# Altium footprint library 常用元件封装.PCBLIB: 163 footprints (part 7 of 11)
Each footprint in its own frame and in the unit in brackets; x right, y up, seen from the top. Pads: shape width x height; smd on the part's side, far side on the other; paste and mask are expansions set on the pad; w line width, h text height; cw(c..) or ccw(c..) is an arc to the next point about the centre after c.
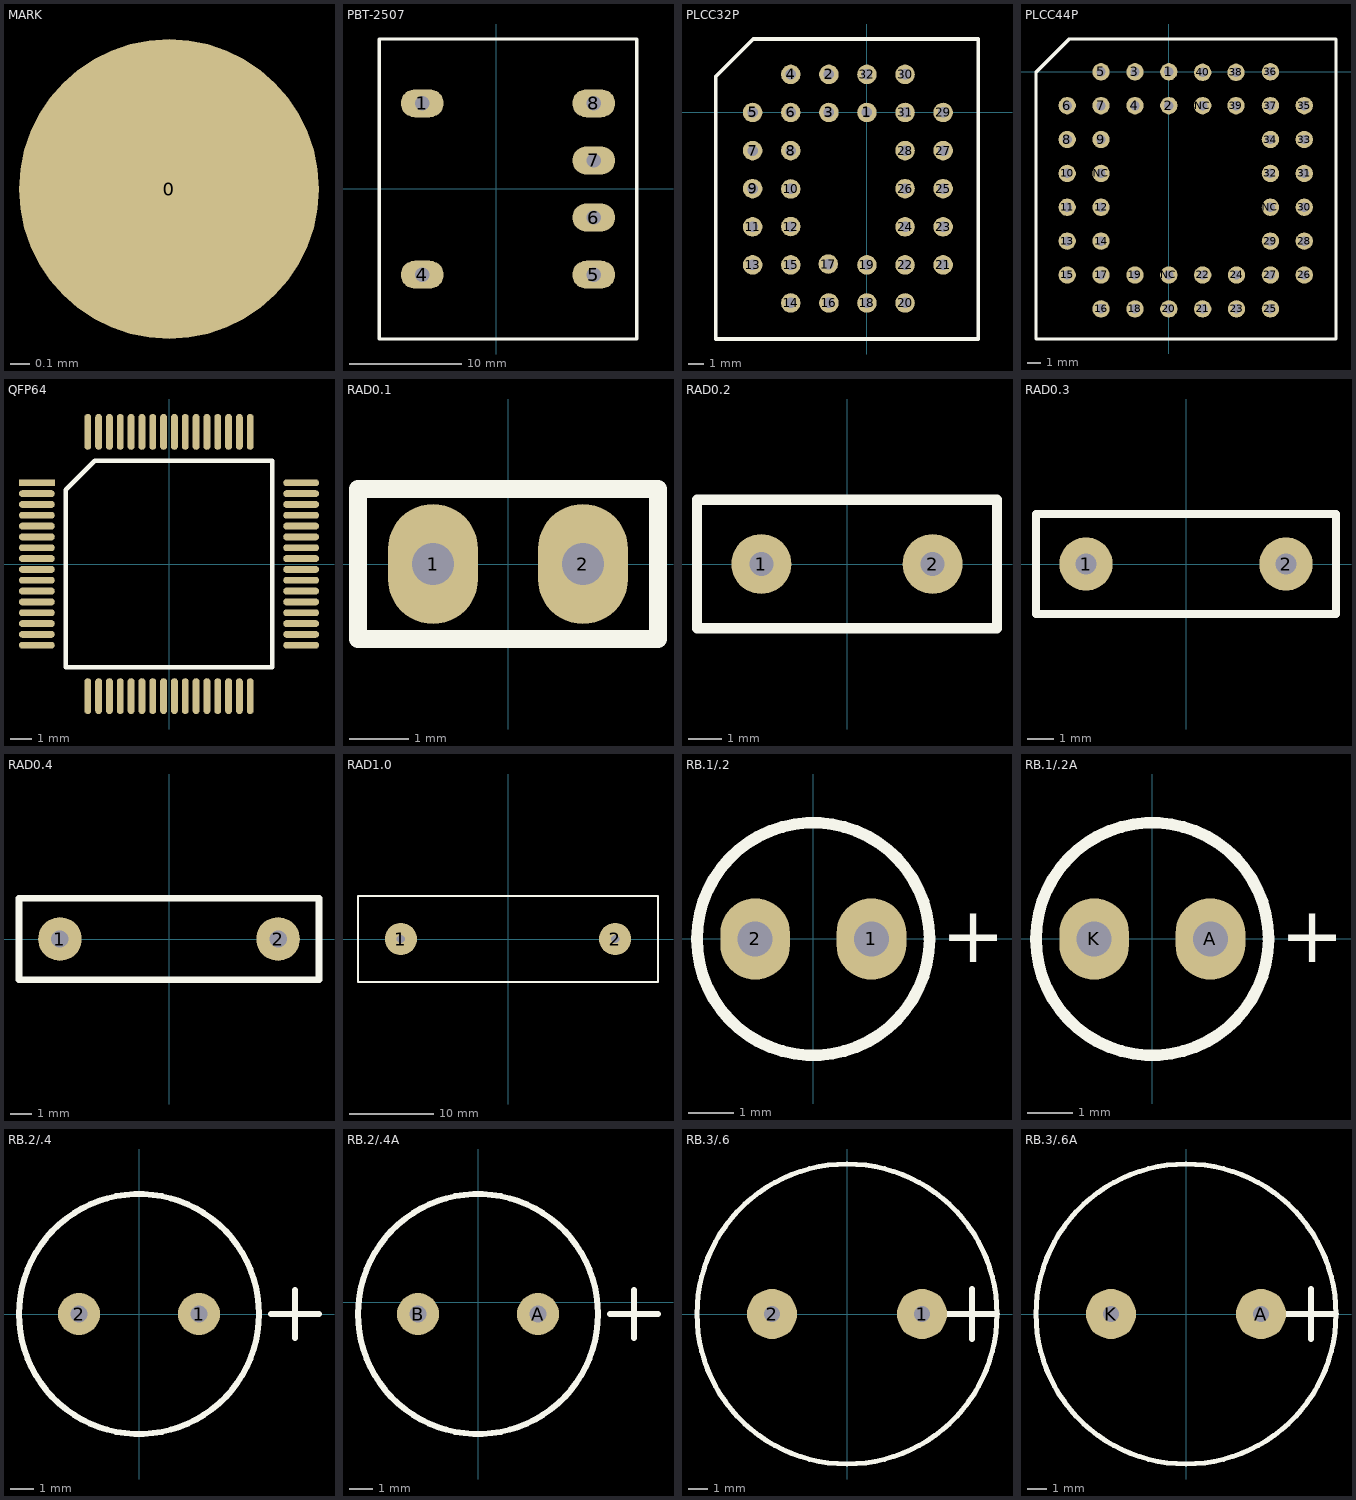
[diagram p6: the footprints below, top view; thin cyan lines are the x and y axes]

## MARK [mil]
pads (1):
  round 60 all layers, no hole: 0(50000,50000)

## PBT-2507 [mil]
pads (6):
  oval 150x98 hole 50: 1(-259,299) 4(-259,-301) 5(341,-301) 6(341,-101) 7(341,99) 8(341,299)
TopOverlay:
  lines w12: -409,-526 -409,524 491,524 491,-526 -409,-526

## PLCC32P [mm]
pads (32):
  round 1.3 hole 0.7: 1(0,0) 2(-2.54,2.54) 3(-2.54,0) 4(-5.08,2.54) 5(-7.62,0) 6(-5.08,0) 7(-7.62,-2.54) 8(-5.08,-2.54) 9(-7.62,-5.08) 10(-5.08,-5.1) 11(-7.62,-7.62) 12(-5.08,-7.6) 13(-7.62,-10.16) 14(-5.08,-12.7) 15(-5.08,-10.16) 16(-2.54,-12.7) 17(-2.58,-10.1) 18(0,-12.7) 19(0,-10.16) 20(2.54,-12.7) 21(5.08,-10.16) 22(2.54,-10.16) 23(5.08,-7.62) 24(2.54,-7.62) 25(5.08,-5.08) 26(2.54,-5.08) 27(5.08,-2.54) 28(2.54,-2.54) 29(5.08,0) 30(2.54,2.54) 31(2.54,0) 32(0,2.54)
TopOverlay:
  lines w0.254: -10.08,-15.1 -10.08,-0.1 -10.08,2.4 -7.58,4.9 -5.08,4.9 7.42,4.9 7.42,-15.1 -10.08,-15.1

## PLCC44P [mm]
pads (44):
  round 1.3 hole 0.7: 1(0,0) 2(0,-2.54) 3(-2.54,0) 4(-2.54,-2.54) 5(-5.08,0) 6(-7.62,-2.54) 7(-5.08,-2.54) 8(-7.62,-5.08) 9(-5.08,-5.08) 10(-7.62,-7.62) 11(-7.62,-10.16) 12(-5.08,-10.16) 13(-7.62,-12.7) 14(-5.08,-12.7) 15(-7.62,-15.24) 16(-5.08,-17.78) 17(-5.08,-15.24) 18(-2.54,-17.78) 19(-2.54,-15.24) 20(0,-17.78) 21(2.54,-17.78) 22(2.54,-15.24) 23(5.08,-17.78) 24(5.08,-15.24) 25(7.62,-17.78) 26(10.16,-15.24) 27(7.62,-15.24) 28(10.16,-12.7) 29(7.62,-12.7) 30(10.16,-10.16) 31(10.16,-7.62) 32(7.62,-7.62) 33(10.16,-5.08) 34(7.62,-5.08) 35(10.16,-2.54) 36(7.62,0) 37(7.62,-2.54) 38(5.04,-0.04) 39(5.04,-2.54) 40(2.54,-0.04) NC(-5.08,-7.62) NC(0,-15.24) NC(2.54,-2.54) NC(7.62,-10.16)
TopOverlay:
  lines w0.254: -9.96,-20.04 -9.96,-2.54 -9.96,-0.04 -7.46,2.46 -4.96,2.46 12.54,2.46 12.54,-20.04 -9.96,-20.04

## QFP64 [mm]
pads (64):
  rect 1.651x0.32 smd: 1(-6.1,3.75)
  oval 1.651x0.32 smd: 2(-6.1,3.25) 3(-6.1,2.75) 4(-6.1,2.25) 5(-6.1,1.75) 6(-6.1,1.25) 7(-6.1,0.75) 8(-6.1,0.25) 9(-6.1,-0.25) 10(-6.1,-0.75) 11(-6.1,-1.25) 12(-6.1,-1.75) 13(-6.1,-2.25) 14(-6.1,-2.75) 15(-6.1,-3.25) 16(-6.1,-3.75) 33(6.1,-3.75) 34(6.1,-3.25) 35(6.1,-2.75) 36(6.1,-2.25) 37(6.1,-1.75) 38(6.1,-1.25) 39(6.1,-0.75) 40(6.1,-0.25) 41(6.1,0.25) 42(6.1,0.75) 43(6.1,1.25) 44(6.1,1.75) 45(6.1,2.25) 46(6.1,2.75) 47(6.1,3.25) 48(6.1,3.75)
  oval 0.32x1.651 smd: 17(-3.75,-6.1) 18(-3.25,-6.1) 19(-2.75,-6.1) 20(-2.25,-6.1) 21(-1.75,-6.1) 22(-1.25,-6.1) 23(-0.75,-6.1) 24(-0.25,-6.1) 25(0.25,-6.1) 26(0.75,-6.1) 27(1.25,-6.1) 28(1.75,-6.1) 29(2.25,-6.1) 30(2.75,-6.1) 31(3.25,-6.1) 32(3.75,-6.1) 49(3.75,6.1) 50(3.25,6.1) 51(2.75,6.1) 52(2.25,6.1) 53(1.75,6.1) 54(1.25,6.1) 55(0.75,6.1) 56(0.25,6.1) 57(-0.25,6.1) 58(-0.75,6.1) 59(-1.25,6.1) 60(-1.75,6.1) 61(-2.25,6.1) 62(-2.75,6.1) 63(-3.25,6.1) 64(-3.75,6.1)
TopOverlay:
  lines w0.2: -4.765,-4.765 4.765,-4.765 4.765,4.765 -3.43,4.765 -4.765,3.43 -4.765,-4.765

## RAD0.1 [mil]
pads (2):
  oval 60x80 hole 28: 1(-50,0) 2(50,0)
TopOverlay:
  lines w12: -100,-50 100,-50 100,50 -100,50 -100,-50

## RAD0.2 [mil]
pads (2):
  round 70 hole 28: 1(-100,0) 2(100,0)
TopOverlay:
  lines w12: -175,-75 -175,75 175,75 175,-75 -175,-75

## RAD0.3 [mil]
pads (2):
  round 80 hole 32: 1(-150,0) 2(150,0)
TopOverlay:
  lines w12: -225,-75 225,-75 225,75 -225,75 -225,-75

## RAD0.4 [mil]
pads (2):
  round 80 hole 32: 1(-200,0) 2(200,0)
TopOverlay:
  lines w12: -275,-75 275,-75 275,75 -275,75 -275,-75

## RAD1.0 [mil]
pads (2):
  round 150 hole 39: 1(-500,0) 2(500,0)
TopOverlay:
  lines w10: -700,-200 -500,-200 500,-200 700,-200 700,200 500,200 -500,200 -700,200 -700,-200

## RB.1/.2 [mil]
pads (2):
  oval 60x70 hole 30: 1(50,0) 2(-50,0)
TopOverlay:
  circle w10: c0,0 r100
  text "+" at 110,-20 h48

## RB.1/.2A [mil]
pads (2):
  oval 60x70 hole 30: A(50,0) K(-50,0)
TopOverlay:
  circle w10: c0,0 r100
  text "+" at 110,-20 h48

## RB.2/.4 [mil]
pads (2):
  round 70 hole 28: 1(100,0) 2(-100,0)
TopOverlay:
  circle w10: c0,0 r200
  lines w10: 220,0 300,0 ; 260,-40 260,40

## RB.2/.4A [mil]
pads (2):
  round 70 hole 28: A(100,-20) B(-100,-20)
TopOverlay:
  circle w10: c0,-20 r200
  lines w10: 220,-20 300,-20 ; 260,-60 260,20

## RB.3/.6 [mil]
pads (2):
  round 100 hole 32: 1(150,0) 2(-150,0)
TopOverlay:
  circle w10: c0,0 r300
  lines w12: 200,0 300,0 ; 250,-50 250,50

## RB.3/.6A [mil]
pads (2):
  round 100 hole 32: A(150,0) K(-150,0)
TopOverlay:
  circle w10: c0,0 r300
  lines w12: 200,0 300,0 ; 250,-50 250,50